# Altium footprint library 662 008 230 822.PcbLib: 1 footprints
Each footprint in its own frame and in the unit in brackets; x right, y up, seen from the top. Pads: shape width x height; smd on the part's side, far side on the other; paste and mask are expansions set on the pad; w line width, h text height; cw(c..) or ccw(c..) is an arc to the next point about the centre after c.
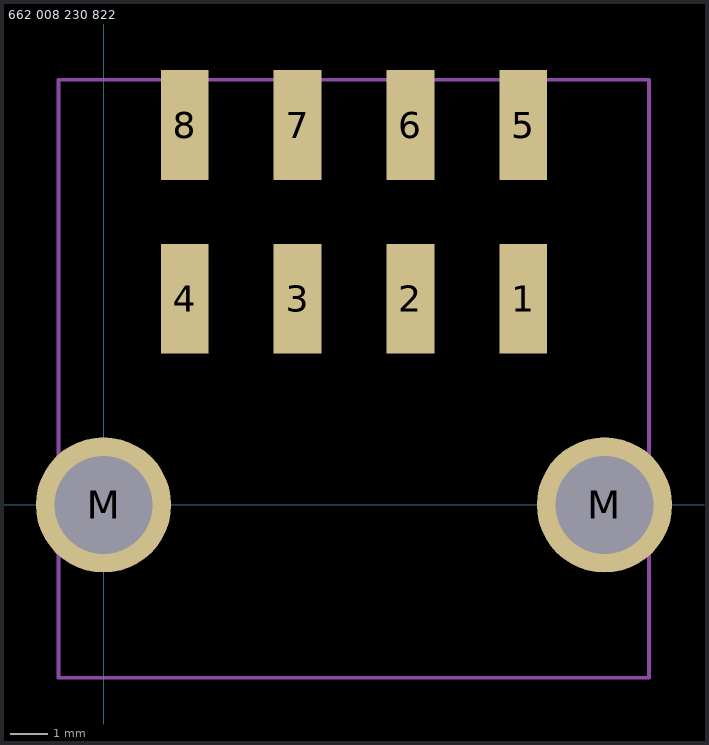
[diagram p0: the footprint, top view; thin cyan lines are the x and y axes]

## 662 008 230 822 [mm]
pads (10):
  rect 1.27x2.92 smd mask+0.05: 1(11.16,5.48) 2(8.16,5.48) 3(5.16,5.48) 4(2.16,5.48) 5(11.16,10.1) 6(8.16,10.1) 7(5.16,10.1) 8(2.16,10.1)
  round 3.6 hole 2.6 mask+0.102: M(0,0) M(13.32,0)
Mechanical 1:
  lines w0.1: -1.195,-4.597 -1.195,11.303 14.505,11.303 14.505,-4.597 -1.195,-4.597
3D body "6620xx230822.stp": height 8.73, standoff -3.13, extent -1.195,-4.597 14.505,11.303